# Altium integrated library Qwiic_Pocket_Dev_ESP32_C6.IntLib: 1 symbol
Pins are listed as number, name and electrical type; pins without a type are passive.

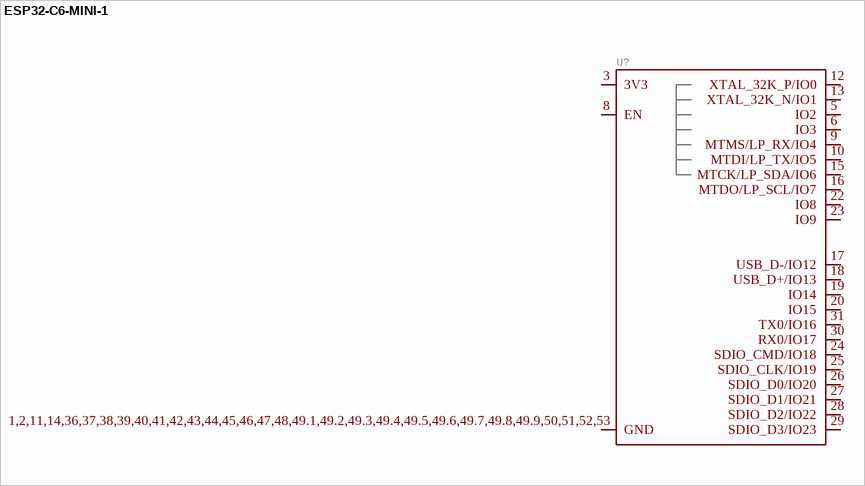
[diagram p0: symbol ESP32-C6-MINI-1]

## ESP32-C6-MINI-1
designator U?
GateName_1: G$1; SymbolName_1: ESP32-C6-MINI-1; PROD_ID: IC-19033; LibraryName: ESP32-C6-MINI-1; DeviceSetName: ESP32-C6-MINI-1; Package: ESP32-C6-MINI-1
footprint ESP32-C6-MINI-1
pins: 1,2,11,14,36,37,38,39,40,41,42,43,44,45,46,47,48,49.1,49.2,49.3,49.4,49.5,49.6,49.7,49.8,49.9,50,51,52,53 GND (io), 3 3V3 (io), 5 IO2 (io), 6 IO3 (io), 8 EN (io), 9 MTMS/LP_RX/IO4 (io), 10 MTDI/LP_TX/IO5 (io), 12 XTAL_32K_P/IO0 (io), 13 XTAL_32K_N/IO1 (io), 15 MTCK/LP_SDA/IO6 (io), 16 MTDO/LP_SCL/IO7 (io), 17 USB_D-/IO12 (io), 18 USB_D+/IO13 (io), 19 IO14 (io), 20 IO15 (io), 22 IO8 (io), 23 IO9 (io), 24 SDIO_CMD/IO18 (io), 25 SDIO_CLK/IO19 (io), 26 SDIO_D0/IO20 (io), 27 SDIO_D1/IO21 (io), 28 SDIO_D2/IO22 (io), 29 SDIO_D3/IO23 (io), 30 RX0/IO17 (io), 31 TX0/IO16 (io)